# Altium schematic symbol library LASER_LIB_SCHE.SchLib: 51 symbols
Pins are listed as number, name and electrical type; pins without a type are passive.

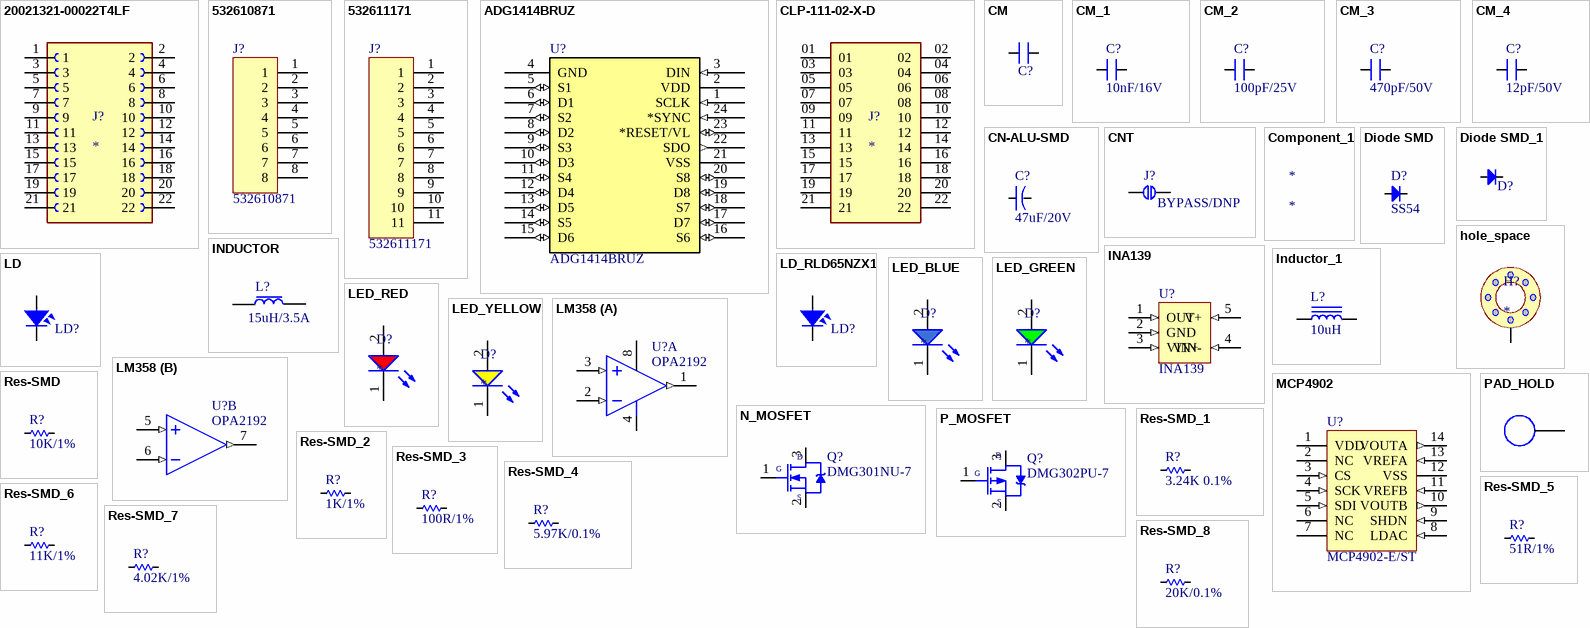
[diagram p0: symbols 20021321-00022T4LF to Res-SMD_8]

## 20021321-00022T4LF
designator J?
MP: 20021321-00022T4LF; Package: None; Price: None; Value: *; Availability: Unavailable
footprint 20021321-00022T4LF
pins: 1, 2, 3, 4, 5, 6, 7, 8, 9, 10, 11, 12, 13, 14, 15, 16, 17, 18, 19, 20, 21, 22

## 532610871
designator J?
Manufacturer_Name: Molex Connector Corporation; Copyright: Copyright (C) 2025 Ultra Librarian. All rights reserved.; Manufacturer_Part_Number: 532610871; Datasheet: https://www.molex.com/en-us/products/part-detail-pdf/532610871?display=pdf; RefDes: RefDes; Type: Type
footprint MOLEX_532610001
pins: 1, 2, 3, 4, 5, 6, 7, 8

## 532611171
designator J?
Manufacturer_Name: Molex Connector Corporation; Copyright: Copyright (C) 2025 Ultra Librarian. All rights reserved.; Manufacturer_Part_Number: 532611171; Datasheet: https://www.molex.com/en-us/products/part-detail-pdf/532611171?display=pdf; RefDes: RefDes; Type: Type
footprint MOLEX_532611171
pins: 1, 2, 3, 4, 5, 6, 7, 8, 9, 10, 11

## ADG1414BRUZ
designator U?
footprint TSSOP24 (TSSOP, 24-Leads, Body 7.80x4.40mm, Pitch 0.65mm, IPC High Density)
pins: 1 SCLK (in), 2 VDD (power), 3 DIN (in), 4 GND (power), 5 S1 (io), 6 D1 (io), 7 S2 (io), 8 D2 (io), 9 S3 (io), 10 D3 (io), 11 S4 (io), 12 D4 (io), 13 D5 (io), 14 S5 (io), 15 D6 (io), 16 S6 (io), 17 D7 (io), 18 S7 (io), 19 D8 (io), 20 S8 (io), 21 VSS (power), 22 SDO (out), 23 *RESET/VL (io), 24 *SYNC (in)

## CLP-111-02-X-D
designator J?
CLP - Samtec 1.27mm Tiger Claw Rugged Reliable Dual Wipe Socket Strip; MP: CLP-111-02-L-D; SnapEDA_Link: https://www.snapeda.com/parts/CLP-111-02-L-D/Samtec/view-part/?ref=snap; Package: None; Value: *; MF: Samtec; Check_prices: https://www.snapeda.com/parts/CLP-111-02-L-D/Samtec/view-part/?ref=eda
footprint SAMTEC_CLP-111-02-X-D
pins: 01, 02, 03, 04, 05, 06, 07, 08, 09, 10, 11, 12, 13, 14, 15, 16, 17, 18, 19, 20, 21, 22

## CM
designator C?, comment 0.22uF/25V  (value not drawn)
CL10B224KA8NNNC; Value: 103
footprint SM-0805 (Compoment SMD 80x50mil)
footprint SM-0402
footprint SM-0603
footprint RES-SMD-1206
footprint SM-2512
footprint SM-3225N (Chip Capacitor, Body 3.2x2.5mm, IPC Medium Density)
footprint SM-6728N (Chip Capacitor, Body 6.7x2.8mm, IPC Medium Density)
footprint SM-7238N (Chip Capacitor, Body 7.2x3.8mm, IPC Medium Density)
pins: 1, 2

## CM_1
designator C?, comment 10nF/16V
CL10B103KB8NNNC; Value: 103
footprint SM-0805 (Compoment SMD 80x50mil)
footprint SM-0402
footprint SM-0603
footprint RES-SMD-1206
footprint SM-2512
footprint SM-3225N (Chip Capacitor, Body 3.2x2.5mm, IPC Medium Density)
footprint SM-6728N (Chip Capacitor, Body 6.7x2.8mm, IPC Medium Density)
footprint SM-7238N (Chip Capacitor, Body 7.2x3.8mm, IPC Medium Density)
pins: 1, 2

## CM_2
designator C?, comment 100pF/25V
C0603C101M3HACTU; Value: 103
footprint SM-0805 (Compoment SMD 80x50mil)
footprint SM-0402
footprint SM-0603
footprint RES-SMD-1206
footprint SM-2512
footprint SM-3225N (Chip Capacitor, Body 3.2x2.5mm, IPC Medium Density)
footprint SM-6728N (Chip Capacitor, Body 6.7x2.8mm, IPC Medium Density)
footprint SM-7238N (Chip Capacitor, Body 7.2x3.8mm, IPC Medium Density)
pins: 1, 2

## CM_3
designator C?, comment 470pF/50V
CL10B471KB8NNNC; Value: 103
footprint SM-0805 (Compoment SMD 80x50mil)
footprint SM-0402
footprint SM-0603
footprint RES-SMD-1206
footprint SM-2512
footprint SM-3225N (Chip Capacitor, Body 3.2x2.5mm, IPC Medium Density)
footprint SM-6728N (Chip Capacitor, Body 6.7x2.8mm, IPC Medium Density)
footprint SM-7238N (Chip Capacitor, Body 7.2x3.8mm, IPC Medium Density)
pins: 1, 2

## CM_4
designator C?, comment 12pF/50V
CL10C120JB81PNC; Value: 103
footprint SM-0805 (Compoment SMD 80x50mil)
footprint SM-0402
footprint SM-0603
footprint RES-SMD-1206
footprint SM-2512
footprint SM-3225N (Chip Capacitor, Body 3.2x2.5mm, IPC Medium Density)
footprint SM-6728N (Chip Capacitor, Body 6.7x2.8mm, IPC Medium Density)
footprint SM-7238N (Chip Capacitor, Body 7.2x3.8mm, IPC Medium Density)
pins: 1, 2

## CN-ALU-SMD
designator C?, comment 47uF/20V
TAJC476K020RNJ; Published: 8-Jun-2000; LatestRevisionDate: 17-Jul-2002; LatestRevisionNote: Re-released for DXP Platform.; PackageReference: POLAR0.8; Publisher: Altium Limited
footprint CAP-ALU-SMD-4.5x5x1.4
footprint CAP-ALU-SMD-5x5.5x1.4
footprint CAP-ALU-SMD-5.5x5.5
footprint CAP-ALU-SMD-6.3x7.7x2.2
footprint CAP-ALU-SMD-C
footprint CAP-ALU-SMD-D
footprint CAP-ALU-SMD-F
footprint CAP-ALU-SMD-G
footprint CAP-ALU-SMD-H
footprint CAP-ALU-SMD-J
footprint CAP-ALU-SMD-K
footprint CAP_TANT_1206
footprint CAP TANT 2312
pins: 1, 2
1 alternate drawing of the same symbol

## CNT
designator J?, comment BYPASS/DNP
DNP
footprint BIG_CONNECTOR
footprint SMALL_CONNECTOR
pins: 1 (power), 2 (power)

## Component_1
designator *

## Diode SMD
designator D?, comment SS54
Code - JEDEC: DO-214-AB; Value: 1N5007; Published: 8-Jun-2000; Revision: July-2002: Re-released for DXP Platform.; Publisher: Altium Limited
footprint DIO-SMD-106
footprint DIO-SMD-123
footprint DIO-SMD-A
footprint DIO-SMD-B (Magnetic-Core Inductor with Winding Polarity Marking; 2 Leads)
footprint DIO-SMD-216AA (DO216AA ST-MITE)
footprint DIO-SMD-222AA (DO216AA ST-MITE)
footprint DIO-SMD-C
pins: 1 A, 2 K

## Diode SMD_1
designator D?, comment 1N4148W-TP  (value not drawn)
Code - JEDEC: DO-214-AB; Value: 1N5007; Published: 8-Jun-2000; Revision: July-2002: Re-released for DXP Platform.; Publisher: Altium Limited
footprint DIO-SMD-106
footprint DIO-SMD-123
footprint DIO-SMD-A
footprint DIO-SMD-B (Magnetic-Core Inductor with Winding Polarity Marking; 2 Leads)
footprint DIO-SMD-216AA (DO216AA ST-MITE)
footprint DIO-SMD-222AA (DO216AA ST-MITE)
footprint DIO-SMD-C
footprint SOD23
pins: 1 A, 2 K

## hole_space
designator H?
footprint HOLE_SPACE
pins: 1

## INA139
designator U?
INA139NA/250
footprint SOT23-5
pins: 1 OUT (in), 2 GND (in), 3 VIN+ (in), 4 VIN- (in), 5 V+ (in)

## INDUCTOR
designator L?, comment 15uH/3.5A
SRP7050TA-150M
footprint SRP7050TA (Precision Wire Wound Inductor, 2-Leads, Body 7.30x6.60mm, IPC Medium Density)
pins: 1 (power), 2 (power)

## Inductor_1
designator L?, comment 10uH
MLZ1608N100LT000; Value: 1.5uH
footprint IND 0402/1005 RF WW (Chip Inductor, 2-Leads, Body 1.00x0.50mm, IPC High Density)
footprint FER 0805/2012 (Chip Ferrite, 2-Leads, Body 2.00x1.20mm, IPC Medium Density)
footprint BOURNS SRP5030T (Precision Wire Wound Inductor, 2-Leads, Body 5.70x5.20mm, IPC Medium Density)
footprint BOURNS SRR1280 (Precision Wire Wound Inductor, 2-Leads, Body 12.50x12.50mm, IPC Medium Density)
footprint BOURNS SRR6028 (Precision Wire Wound Inductor, 2-Leads, Body 6.80x6.80mm, IPC Medium Density)
footprint FER 0201/0603 (Chip Inductor, 2-Leads, Body 0.60x0.30mm, IPC Medium Density)
footprint FER 0603/1608 (Chip Ferrite, 2-Leads, Body 1.60x0.80mm, IPC Medium Density)
footprint FER 0402/1005 (Chip Ferrite, 2-Leads, Body 1.02x0.51mm, IPC Medium Density)
footprint TAIYO YUDEN MAMK2520T1R0M (Inductor, 2-Leads, Body 2.50x2.00mm, IPC Medium Density)
footprint TDK SPM3012 (Inductor, 2-Leads, Body 3.00x3.00mm, IPC Medium Density)
footprint TDK SPM3020-LR (Inductor, 2-Leads, Body 3.00x3.00mm, IPC Medium Density)
footprint TDK VLCF4024-2 (Precision Wire Wound Inductor, 2-Leads, Body 4.00x4.00mm, IPC Medium Density)
footprint TDK VLCF4028-2 (Precision Wire Wound Inductor, 2-Leads, Body 4.00x4.00mm, IPC Medium Density)
footprint TDK VLF252012MT (Inductor, 2-Leads, Body 2.00x2.50mm, IPC Medium Density)
footprint TDK VLF252015MT (Inductor, 2-Leads, Body 2.00x2.50mm, IPC Medium Density)
footprint TDK VLF403210MT (Precision Wire Wound Inductor, 2-Leads, Body 3.20x4.00mm, IPC Medium Density)
footprint TDK VLF403212MT (Precision Wire Wound Inductor, 2-Leads, Body 3.20x4.00mm, IPC Medium Density)
footprint TDK VLF504015MT (Wire Wound Inductor, 2-Leads, Body 4.00x5.00mm, IPC Medium Density)
footprint TDK VLF504010MT (Wire Wound Inductor, 2-Leads, Body 4.00x5.00mm, IPC Medium Density)
footprint TDK VLS201612CX (Inductor, 2-Leads, Body 2.00x1.60mm, IPC Medium Density)
footprint TDK VLS201612HBX-1 (Inductor, 2-Leads, Body 2.00x1.60mm, IPC Medium Density)
footprint TDK VLS252010CX (Chip Inductor, 2-Leads, Body 2.50x2.00mm, IPC Medium Density)
footprint TDK VLS252010HBX-1 (Inductor, 2-Leads, Body 2.50x2.00mm, IPC Medium Density)
footprint TDK VLS252012CX (Inductor, 2-Leads, Body 2.50x2.00mm, IPC Medium Density)
footprint TDK VLS252012HBX-1 (Inductor, 2-Leads, Body 2.50x2.00mm, IPC Medium Density)
footprint WURTH 5040 (Wire Wound Inductor, 2-Leads, Body 5.60x5.30mm, IPC Medium Density)
footprint WURTH WE-HCI 7040
footprint CDRH104R (Precision Wire Wound Inductor, 2-Leads, Body 10.35x10.15mm, IPC Medium Density)
pins: 1, 2

## LD
designator LD?, comment LaserDiode  (value not drawn)
OPV302
footprint LASER
footprint LASER_SOCKET
pins: 1, 2

## LD_RLD65NZX1
designator LD?, comment LaserDiode  (value not drawn)
RLD65NZX1
footprint LASER
footprint LASER_SOCKET; pin to pad 3>2
pins: 1, 3

## LED_BLUE
designator D?
footprint LED-0603-Blue
pins: 1 K, 2 A

## LED_GREEN
designator D?
footprint LED-0603-GREEN
pins: 1 K, 2 A

## LED_RED
designator D?
footprint LED-0603-RED
pins: 1 K, 2 A

## LED_YELLOW
designator D?
footprint LED-0603-YELLOW
pins: 1 K, 2 A

## LM358
designator U?, comment OPA2192
OPA2192IDR; Value: LM358
footprint DIP8
footprint SO8
part A pins: 1 OUT (out), 2 IN- (in), 3 IN+ (in), 4 -V, 8 +V
part B pins: 5 IN+ (in), 6 IN- (in), 7 OUT (out)

## MCP4902
designator U?, comment MCP4902-E/ST
footprint TSSOP14 (TSSOP, 14-Leads, Body 5.00x4.40mm, Pitch 0.65mm, IPC High Density)
pins: 1 VDD (power), 2 NC (hiz), 3 CS (in), 4 SCK (in), 5 SDI (in), 6 NC (hiz), 7 NC (hiz), 8 LDAC (in), 9 SHDN (in), 10 VOUTB (out), 11 VREFB (in), 12 VSS (power), 13 VREFA (in), 14 VOUTA (out)

## N_MOSFET
designator Q?, comment DMG301NU-7
footprint TO220_123 (TO-220 - 1-2-3)
footprint TO220_321 (TO-220 - 3-2-1)
footprint TO220_H1 (TO-220 - 1-2-3)
footprint TO220_H2 (TO-220 - 1-2-3)
footprint TO220_H3 (TO-220 1-2-3)
footprint TO220_NAM (TO-220 - 1-2-3)
footprint TO252-123
footprint TO263-123
footprint SOT23-3-123
footprint SOT23-3-132
footprint SOT23-3-213
pins: 1 G, 2 S, 3 D

## P_MOSFET
designator Q?, comment DMG302PU-7
footprint TO252-123
footprint SOT23-3-123
footprint SOT23-3-132
footprint SOT23-3-213
pins: 1 G, 2 S, 3 D

## PAD_HOLD
designator H?, comment HOLD  (value not drawn)
footprint M3
pins: 1 (power)

## Res-SMD
designator R?, comment 10K/1%
ERJ-3EKF1002V; Manufacturer: Generic Components; Class: Passive; Published: 08/06/2000; Publisher: Altium Hobart Technology Centre
footprint RES-SMD-0101
footprint RES-SMD-0201
footprint RES-SMD-0603
footprint RES-SMD-0805
footprint RES-SMD-1206
footprint RES-SMD-1210 (Chip Capacitor, Body 3.2x2.5mm, IPC Medium Density)
footprint RES-SMD-1812 (Chip Capacitor, Body 3.2x2.5mm, IPC Medium Density)
footprint RES-SMD-2010 (Chip Capacitor, Body 3.2x2.5mm, IPC Medium Density)
footprint RES-SMD-2512 (Chip Capacitor, Body 3.2x2.5mm, IPC Medium Density)
footprint RES-SMD-0402
pins: 1, 2

## Res-SMD_1
designator R?, comment 3.24K 0.1%
ERJ-3EKF3241V; Manufacturer: Generic Components; Class: Passive; Published: 08/06/2000; Publisher: Altium Hobart Technology Centre
footprint RES-SMD-0101
footprint RES-SMD-0201
footprint RES-SMD-0603
footprint RES-SMD-0805
footprint RES-SMD-1206
footprint RES-SMD-1210 (Chip Capacitor, Body 3.2x2.5mm, IPC Medium Density)
footprint RES-SMD-1812 (Chip Capacitor, Body 3.2x2.5mm, IPC Medium Density)
footprint RES-SMD-2010 (Chip Capacitor, Body 3.2x2.5mm, IPC Medium Density)
footprint RES-SMD-2512 (Chip Capacitor, Body 3.2x2.5mm, IPC Medium Density)
footprint RES-SMD-0402
pins: 1, 2

## Res-SMD_2
designator R?, comment 1K/1%
ERJ-3EKF1001V; Manufacturer: Generic Components; Class: Passive; Published: 08/06/2000; Publisher: Altium Hobart Technology Centre
footprint RES-SMD-0101
footprint RES-SMD-0201
footprint RES-SMD-0603
footprint RES-SMD-0805
footprint RES-SMD-1206
footprint RES-SMD-1210 (Chip Capacitor, Body 3.2x2.5mm, IPC Medium Density)
footprint RES-SMD-1812 (Chip Capacitor, Body 3.2x2.5mm, IPC Medium Density)
footprint RES-SMD-2010 (Chip Capacitor, Body 3.2x2.5mm, IPC Medium Density)
footprint RES-SMD-2512 (Chip Capacitor, Body 3.2x2.5mm, IPC Medium Density)
footprint RES-SMD-0402
pins: 1, 2

## Res-SMD_3
designator R?, comment 100R/1%
ERJ-PA3D1000V; Manufacturer: Generic Components; Class: Passive; Published: 08/06/2000; Publisher: Altium Hobart Technology Centre
footprint RES-SMD-0101
footprint RES-SMD-0201
footprint RES-SMD-0603
footprint RES-SMD-0805
footprint RES-SMD-1206
footprint RES-SMD-1210 (Chip Capacitor, Body 3.2x2.5mm, IPC Medium Density)
footprint RES-SMD-1812 (Chip Capacitor, Body 3.2x2.5mm, IPC Medium Density)
footprint RES-SMD-2010 (Chip Capacitor, Body 3.2x2.5mm, IPC Medium Density)
footprint RES-SMD-2512 (Chip Capacitor, Body 3.2x2.5mm, IPC Medium Density)
footprint RES-SMD-0402
pins: 1, 2

## Res-SMD_4
designator R?, comment 5.97K/0.1%
RN73R1JTTD5971B25; Manufacturer: Generic Components; Class: Passive; Published: 08/06/2000; Publisher: Altium Hobart Technology Centre
footprint RES-SMD-0101
footprint RES-SMD-0201
footprint RES-SMD-0603
footprint RES-SMD-0805
footprint RES-SMD-1206
footprint RES-SMD-1210 (Chip Capacitor, Body 3.2x2.5mm, IPC Medium Density)
footprint RES-SMD-1812 (Chip Capacitor, Body 3.2x2.5mm, IPC Medium Density)
footprint RES-SMD-2010 (Chip Capacitor, Body 3.2x2.5mm, IPC Medium Density)
footprint RES-SMD-2512 (Chip Capacitor, Body 3.2x2.5mm, IPC Medium Density)
footprint RES-SMD-0402
pins: 1, 2

## Res-SMD_5
designator R?, comment 51R/1%
ERJ-3EKF51R0V; Manufacturer: Generic Components; Class: Passive; Published: 08/06/2000; Publisher: Altium Hobart Technology Centre
footprint RES-SMD-0101
footprint RES-SMD-0201
footprint RES-SMD-0603
footprint RES-SMD-0805
footprint RES-SMD-1206
footprint RES-SMD-1210 (Chip Capacitor, Body 3.2x2.5mm, IPC Medium Density)
footprint RES-SMD-1812 (Chip Capacitor, Body 3.2x2.5mm, IPC Medium Density)
footprint RES-SMD-2010 (Chip Capacitor, Body 3.2x2.5mm, IPC Medium Density)
footprint RES-SMD-2512 (Chip Capacitor, Body 3.2x2.5mm, IPC Medium Density)
footprint RES-SMD-0402
pins: 1, 2

## Res-SMD_6
designator R?, comment 11K/1%
ERJ-3EKF1102V; Manufacturer: Generic Components; Class: Passive; Published: 08/06/2000; Publisher: Altium Hobart Technology Centre
footprint RES-SMD-0101
footprint RES-SMD-0201
footprint RES-SMD-0603
footprint RES-SMD-0805
footprint RES-SMD-1206
footprint RES-SMD-1210 (Chip Capacitor, Body 3.2x2.5mm, IPC Medium Density)
footprint RES-SMD-1812 (Chip Capacitor, Body 3.2x2.5mm, IPC Medium Density)
footprint RES-SMD-2010 (Chip Capacitor, Body 3.2x2.5mm, IPC Medium Density)
footprint RES-SMD-2512 (Chip Capacitor, Body 3.2x2.5mm, IPC Medium Density)
footprint RES-SMD-0402
pins: 1, 2

## Res-SMD_7
designator R?, comment 4.02K/1%
RC0603FR-074K02L; Manufacturer: Generic Components; Class: Passive; Published: 08/06/2000; Publisher: Altium Hobart Technology Centre
footprint RES-SMD-0101
footprint RES-SMD-0201
footprint RES-SMD-0603
footprint RES-SMD-0805
footprint RES-SMD-1206
footprint RES-SMD-1210 (Chip Capacitor, Body 3.2x2.5mm, IPC Medium Density)
footprint RES-SMD-1812 (Chip Capacitor, Body 3.2x2.5mm, IPC Medium Density)
footprint RES-SMD-2010 (Chip Capacitor, Body 3.2x2.5mm, IPC Medium Density)
footprint RES-SMD-2512 (Chip Capacitor, Body 3.2x2.5mm, IPC Medium Density)
footprint RES-SMD-0402
pins: 1, 2

## Res-SMD_8
designator R?, comment 20K/0.1%
ERA-3AEB203V; Manufacturer: Generic Components; Class: Passive; Published: 08/06/2000; Publisher: Altium Hobart Technology Centre
footprint RES-SMD-0101
footprint RES-SMD-0201
footprint RES-SMD-0603
footprint RES-SMD-0805
footprint RES-SMD-1206
footprint RES-SMD-1210 (Chip Capacitor, Body 3.2x2.5mm, IPC Medium Density)
footprint RES-SMD-1812 (Chip Capacitor, Body 3.2x2.5mm, IPC Medium Density)
footprint RES-SMD-2010 (Chip Capacitor, Body 3.2x2.5mm, IPC Medium Density)
footprint RES-SMD-2512 (Chip Capacitor, Body 3.2x2.5mm, IPC Medium Density)
footprint RES-SMD-0402
pins: 1, 2

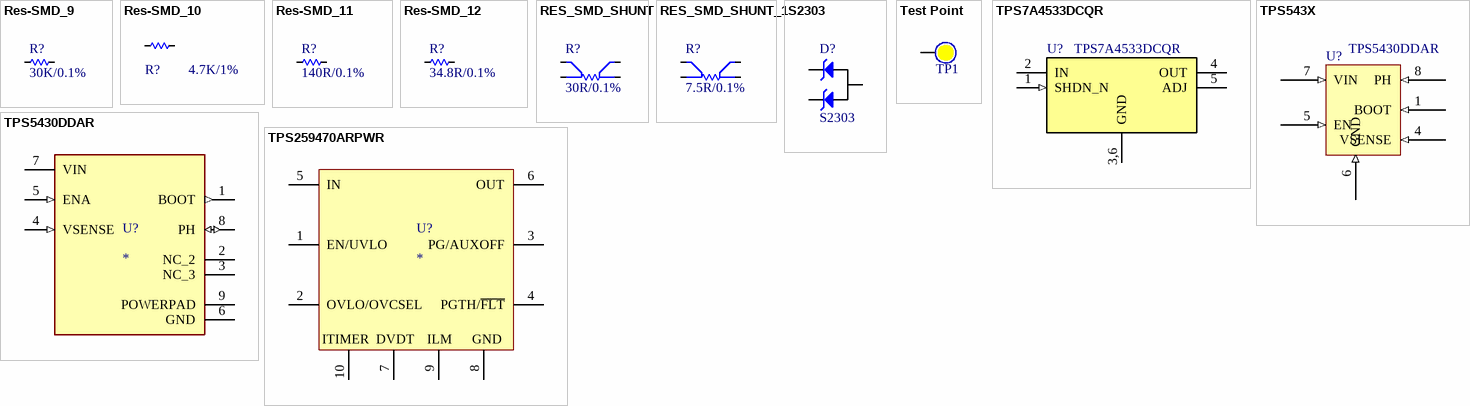
[diagram p1: symbols Res-SMD_9 to TPS259470ARPWR]

## Res-SMD_9
designator R?, comment 30K/0.1%
ERA-3AEB303V; Manufacturer: Generic Components; Class: Passive; Published: 08/06/2000; Publisher: Altium Hobart Technology Centre
footprint RES-SMD-0101
footprint RES-SMD-0201
footprint RES-SMD-0603
footprint RES-SMD-0805
footprint RES-SMD-1206
footprint RES-SMD-1210 (Chip Capacitor, Body 3.2x2.5mm, IPC Medium Density)
footprint RES-SMD-1812 (Chip Capacitor, Body 3.2x2.5mm, IPC Medium Density)
footprint RES-SMD-2010 (Chip Capacitor, Body 3.2x2.5mm, IPC Medium Density)
footprint RES-SMD-2512 (Chip Capacitor, Body 3.2x2.5mm, IPC Medium Density)
footprint RES-SMD-0402
pins: 1, 2

## Res-SMD_10
designator R?, comment 4.7K/1%
ERJ-3EKF4701V; Manufacturer: Generic Components; Class: Passive; Published: 08/06/2000; Publisher: Altium Hobart Technology Centre
footprint RES-SMD-0101
footprint RES-SMD-0201
footprint RES-SMD-0603
footprint RES-SMD-0805
footprint RES-SMD-1206
footprint RES-SMD-1210 (Chip Capacitor, Body 3.2x2.5mm, IPC Medium Density)
footprint RES-SMD-1812 (Chip Capacitor, Body 3.2x2.5mm, IPC Medium Density)
footprint RES-SMD-2010 (Chip Capacitor, Body 3.2x2.5mm, IPC Medium Density)
footprint RES-SMD-2512 (Chip Capacitor, Body 3.2x2.5mm, IPC Medium Density)
footprint RES-SMD-0402
pins: 1, 2

## Res-SMD_11
designator R?, comment 140R/0.1%
ERA-3AEB1400V; Manufacturer: Generic Components; Class: Passive; Published: 08/06/2000; Publisher: Altium Hobart Technology Centre
footprint RES-SMD-0101
footprint RES-SMD-0201
footprint RES-SMD-0603
footprint RES-SMD-0805
footprint RES-SMD-1206
footprint RES-SMD-1210 (Chip Capacitor, Body 3.2x2.5mm, IPC Medium Density)
footprint RES-SMD-1812 (Chip Capacitor, Body 3.2x2.5mm, IPC Medium Density)
footprint RES-SMD-2010 (Chip Capacitor, Body 3.2x2.5mm, IPC Medium Density)
footprint RES-SMD-2512 (Chip Capacitor, Body 3.2x2.5mm, IPC Medium Density)
footprint RES-SMD-0402
pins: 1, 2

## Res-SMD_12
designator R?, comment 34.8R/0.1%
RN73R1JTTD34R8B25; Manufacturer: Generic Components; Class: Passive; Published: 08/06/2000; Publisher: Altium Hobart Technology Centre
footprint RES-SMD-0101
footprint RES-SMD-0201
footprint RES-SMD-0603
footprint RES-SMD-0805
footprint RES-SMD-1206
footprint RES-SMD-1210 (Chip Capacitor, Body 3.2x2.5mm, IPC Medium Density)
footprint RES-SMD-1812 (Chip Capacitor, Body 3.2x2.5mm, IPC Medium Density)
footprint RES-SMD-2010 (Chip Capacitor, Body 3.2x2.5mm, IPC Medium Density)
footprint RES-SMD-2512 (Chip Capacitor, Body 3.2x2.5mm, IPC Medium Density)
footprint RES-SMD-0402
pins: 1, 2

## RES_SMD_SHUNT
designator R?, comment 30R/0.1%
RN73R1JTTD30R0B25
footprint RES_SMD_0603_SHUNT
pins: 1, 2, 3, 4

## RES_SMD_SHUNT_1
designator R?, comment 7.5R/0.1%
RT0603BRD077R5L
footprint RES_SMD_0603_SHUNT
pins: 1, 2, 3, 4

## S2303
designator D?
footprint SOT23-123 (SOT23, 1=bottom-left, 2=top, 3=bottom-right)
pins: 1, 2, 3

## Test Point
designator TP1  (no BOM)
Test Point; Solder: NF
footprint Test point
pins: 1

## TPS7A4533DCQR
designator U?
footprint SOT223-6
pins: 1 SHDN_N (in), 2 IN (power), 3,6 GND (power), 4 OUT (power), 5 ADJ

## TPS543X
designator U?, comment TPS5430DDAR
footprint HSOP8 (SOIC, 8-Leads, Body 4.9x3.9mm, Pitch 1.27mm, IPC High Density); pin to pad 6>6+9
pins: 1 BOOT (in), 4 VSENSE (in), 5 EN (in), 6 GND (in), 7 VIN (in), 8 PH (in)

## TPS5430DDAR
designator U?
5.5V to 36V Input, 3A, 500kHz Step-Down Converter; MF: Texas Instruments; MP: TPS5430DDAR; Package: HSOIC-8 Texas Instruments; Check_prices: https://www.snapeda.com/parts/TPS5430DDAR/Texas+Instruments/view-part/?ref=eda; Value: *; Purchase-URL: https://pricing.snapeda.com/search/part/TPS5430DDAR/?ref=eda; Availability: In Stock; SnapEDA_Link: https://www.snapeda.com/parts/TPS5430DDAR/Texas+Instruments/view-part/?ref=snap; Price: None
footprint CONV_TPS5430DDAR (IC REG BUCK ADJ 3A 8SOPWR)
pins: 1 BOOT (out), 2 NC_2, 3 NC_3, 4 VSENSE (in), 5 ENA (in), 6 GND (power), 7 VIN (power), 8 PH (io), 9 POWERPAD (power)

## TPS259470ARPWR
designator U?
footprint VQFN-HR-10
pins: 1 EN/UVLO, 2 OVLO/OVCSEL, 3 PG/AUXOFF, 4 PGTH/~{FLT}, 5 IN, 6 OUT, 7 DVDT, 8 GND, 9 ILM, 10 ITIMER